# Altium footprint library MiniSquidCtrl.PcbLib: 41 footprints (part 1 of 3)
Each footprint in its own frame and in the unit in brackets; x right, y up, seen from the top. Pads: shape width x height; smd on the part's side, far side on the other; paste and mask are expansions set on the pad; w line width, h text height; cw(c..) or ccw(c..) is an arc to the next point about the centre after c.
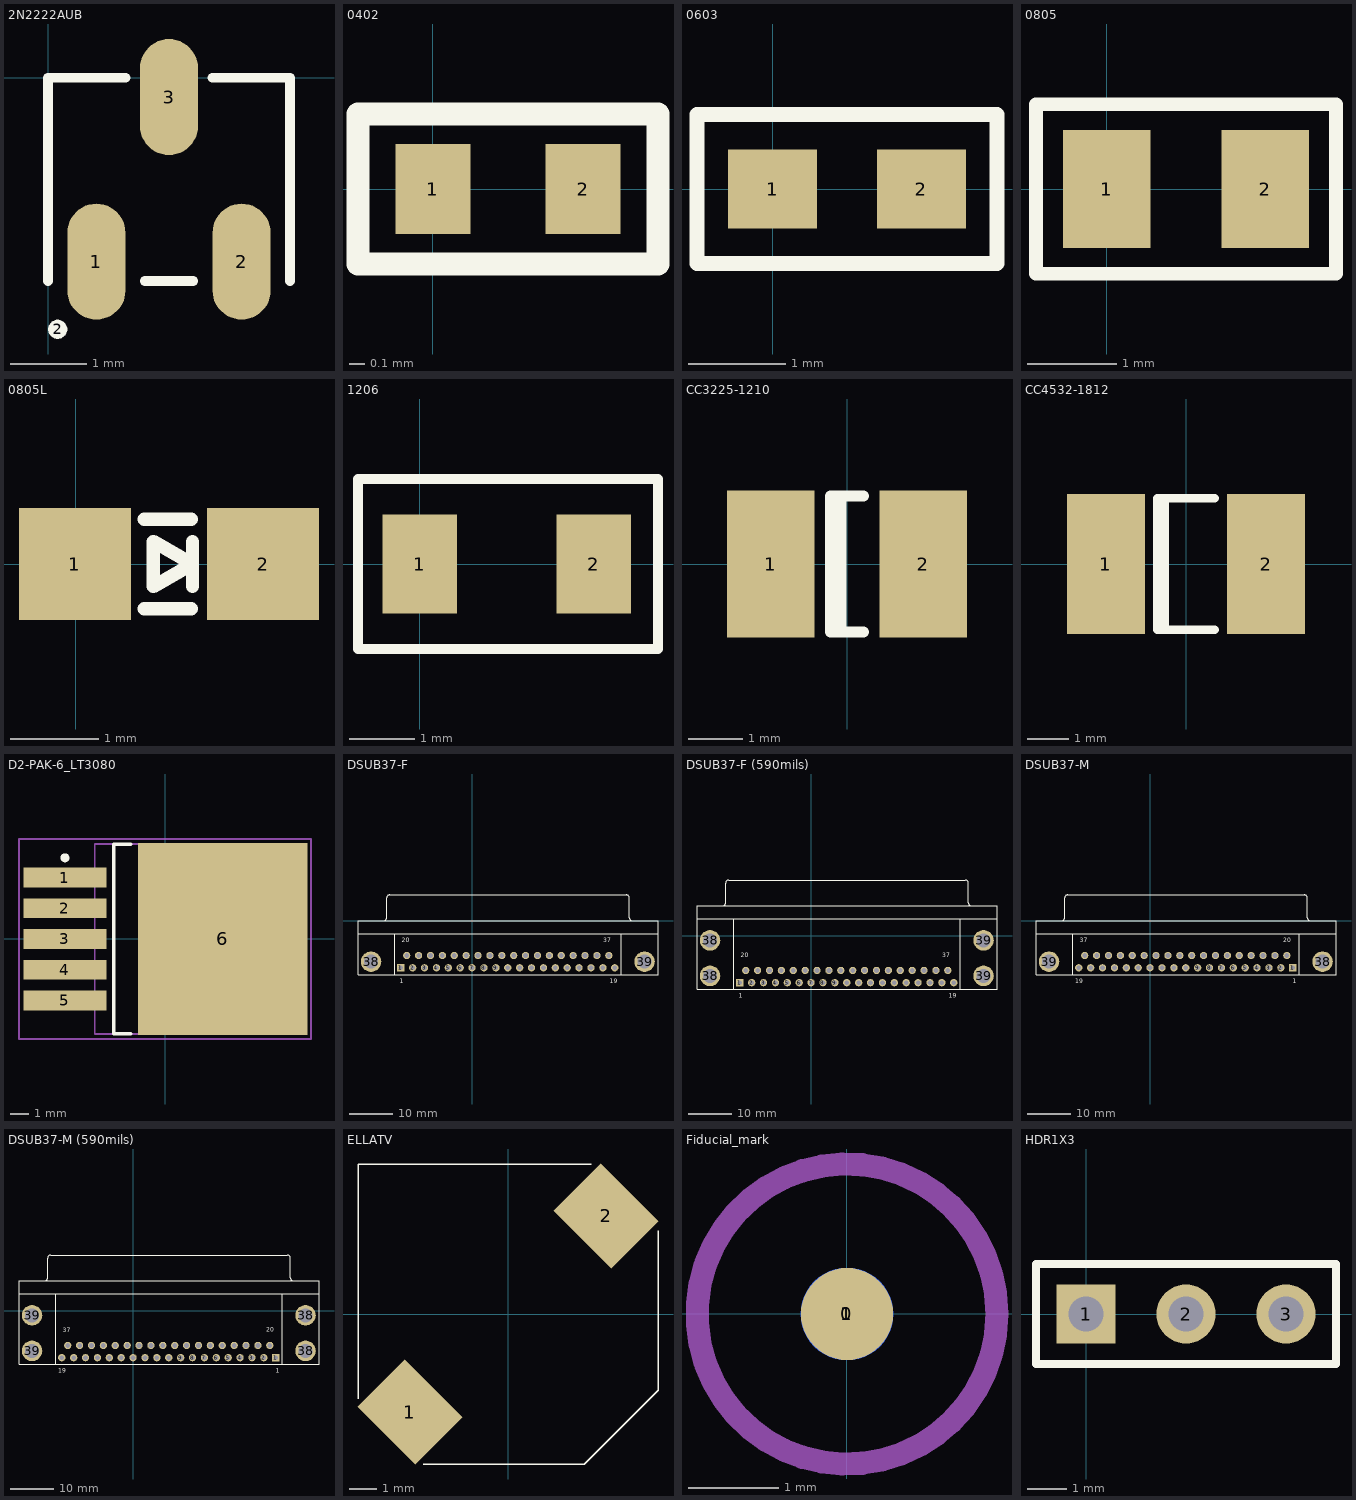
[diagram p0: the footprints below, top view; thin cyan lines are the x and y axes]

## 2N2222AUB [mil] "3 Pin package for 2N2222AUB"
height 54
pads (4):
  oval 30x60 smd paste+0: 1(25,-95)
  round 10 on Top Overlay: 2(5,-130)
  oval 30x60 smd: 2(100,-95) 3(62.5,-10)
Top Overlay:
  lines w5: 0,-105 0,0 40,0 ; 50,-105 75,-105 ; 85,0 125,0 125,-105

## 0402 [mm]
pads (2):
  rect 0.5x0.6 smd: 1(0,0) 2(1,0)
Top Overlay:
  lines w0.152: -0.5,-0.5 1.5,-0.5 1.5,0.5 -0.5,0.5 -0.5,-0.5

## 0603 [mil]
pads (2):
  rect 36x32 smd: 1(0,0) 2(60,0)
Top Overlay:
  lines w6: -30.5,-30 -30.5,30 90.5,30 90.5,-30 -30.5,-30

## 0805 [mil]
pads (2):
  rect 38.5x52 smd: 1(0,0) 2(70,0)
Top Overlay:
  lines w6: -31.25,-37.5 -31.25,37.5 101.25,37.5 101.25,-37.5 -31.25,-37.5

## 0805L [mm]
pads (2):
  rect 1.27x1.27 smd: 1(-0.01,0.005) 2(2.123,0.005)
Top Overlay:
  lines w0.152: 0.777,-0.503 1.311,-0.503 ; 0.777,0.513 1.311,0.513 ; 1.323,-0.249 1.323,0.259 ; 0.879,-0.249 1.323,0.005 0.879,0.259 0.879,-0.249

## 1206 [mil]
pads (2):
  rect 45x60 smd: 1(0,0) 2(105,0)
Top Overlay:
  lines w6: -37.4,-51.18 143.7,-51.18 143.7,51.18 -37.4,51.18 -37.4,-51.18

## CC3225-1210 [mm]
pads (2):
  rect 1.6x2.7 smd: 1(-1.4,0) 2(1.4,0)
Top Overlay:
  lines w0.2: -0.11,-1.25 -0.11,1.25 ; 0.3,-1.25 -0.3,-1.25 -0.3,1.25 0.3,1.25

## CC4532-1812 [mm]
pads (2):
  rect 1.9x3.4 smd: 1(-1.95,0) 2(1.95,0)
Top Overlay:
  lines w0.2: -0.51,-1.6 -0.51,1.6 ; 0.7,-1.6 -0.7,-1.6 -0.7,1.6 0.7,1.6

## D2-PAK-6_LT3080 [mm] "D2-PAK, 6-Pads, Body 9.4x10.5mm (max), IPC Medium Density"
height 4.572
pads (6):
  rect 4.6x1.1 smd: 1(-5.55,3.404) 2(-5.55,1.702) 3(-5.55,0) 4(-5.55,-1.702) 5(-5.55,-3.404)
  rect 9.4x10.672 smd: 6(3.2,0)
Top Overlay:
  circle w0.25: c-5.55,4.504 r0.125
  lines w0.2: -1.9,-5.25 -2.85,-5.25 -2.85,5.25 -1.9,5.25
Mechanical 13:
  lines w0.1: -3.9,-5.275 5.5,-5.275 5.5,5.275 -3.9,5.275 -3.9,-5.275
Mechanical 15:
  lines w0.1: -0.5,0 0.5,0 ; 0,-0.5 0,0.5 ; -8.1,-5.55 8.1,-5.55 8.1,5.55 -8.1,5.55 -8.1,-5.55
3D body: height 4.57, standoff 0.13, extent -3.9,-5.275 5.5,5.275

## DSUB37-F [mm] "DSUB 37Pin Female"
height 12.55
pads (41):
  rect 1.69x1.69 hole 1.09: 1(-16.566,-10.92) 1(-16.566,-10.92)
  round 1.69 hole 1.09: 2(-13.806,-10.92) 3(-11.046,-10.92) 4(-8.286,-10.92) 5(-5.526,-10.92) 6(-2.766,-10.92) 7(-0.006,-10.92) 8(2.754,-10.92) 9(5.514,-10.92) 10(8.274,-10.92) 11(11.034,-10.92) 12(13.794,-10.92) 13(16.554,-10.92) 14(19.314,-10.92) 15(22.074,-10.92) 16(24.834,-10.92) 17(27.594,-10.92) 18(30.354,-10.92) 19(33.114,-10.92) 20(-15.187,-8.08) 20(-15.187,-8.08) 21(-12.427,-8.08) 22(-9.667,-8.08) 23(-6.907,-8.08) 24(-4.147,-8.08) 25(-1.387,-8.08) 26(1.373,-8.08) 27(4.133,-8.08) 28(6.893,-8.08) 29(9.653,-8.08) 30(12.413,-8.08) 31(15.173,-8.08) 32(17.933,-8.08) 33(20.693,-8.08) 34(23.453,-8.08) 35(26.213,-8.08) 36(28.973,-8.08) 37(31.733,-8.08)
  round 4.76 hole 3.26: 38(-23.476,-9.5) 39(40.024,-9.5)
Top Overlay:
  lines w0.2: -26.496,-3 -17.946,-3 ; -20.541,0.005 ccw(c-20.541,0.7) -19.846,0.7 -19.846,5.3 ; -19.841,5.305 cw(c-19.146,5.305) -19.146,6 35.802,6 cw(c35.802,5.305) 36.497,5.305 ; -17.946,-12.5 -17.946,-3 ; 34.602,-3 34.602,-12.5 ; 36.502,5.3 36.502,0.7 ccw(c37.197,0.7) 37.197,0.005 ; 43.152,-3 -17.946,-3 ; 34.602,-12.5 43.152,-12.5 43.152,0 -26.496,0 -26.496,-12.5 34.602,-12.5
  text "1" at -16.816,-14.475 h1.02
  text "19" at 31.989,-14.475 h1.02
  text "20" at -16.31,-4.975 h1.02
  text "37" at 30.484,-4.975 h1.02

## DSUB37-F (590mils) [mm] "DSUB 37Pin Female - 590mils from board edge to first pin"
height 12.55
pads (41):
  rect 1.69x1.69 hole 1.09: 1(-16.566,-10.92)
  round 1.69 hole 1.09: 2(-13.806,-10.92) 3(-11.046,-10.92) 4(-8.286,-10.92) 5(-5.526,-10.92) 6(-2.766,-10.92) 7(-0.006,-10.92) 8(2.754,-10.92) 9(5.514,-10.92) 10(8.274,-10.92) 11(11.034,-10.92) 12(13.794,-10.92) 13(16.554,-10.92) 14(19.314,-10.92) 15(22.074,-10.92) 16(24.834,-10.92) 17(27.594,-10.92) 18(30.354,-10.92) 19(33.114,-10.92) 20(-15.187,-8.08) 21(-12.427,-8.08) 22(-9.667,-8.08) 23(-6.907,-8.08) 24(-4.147,-8.08) 25(-1.387,-8.08) 26(1.373,-8.08) 27(4.133,-8.08) 28(6.893,-8.08) 29(9.653,-8.08) 30(12.413,-8.08) 31(15.173,-8.08) 32(17.933,-8.08) 33(20.693,-8.08) 34(23.453,-8.08) 35(26.213,-8.08) 36(28.973,-8.08) 37(31.733,-8.08)
  round 4.76 hole 3.26: 38(-23.476,-1.095) 38(-23.476,-9.348) 39(40.024,-1.095) 39(40.024,-9.348)
Top Overlay:
  lines w0.2: -26.496,3.909 -17.946,3.909 43.152,3.909 ; -20.541,6.914 ccw(c-20.541,7.609) -19.846,7.609 -19.846,12.209 ; -19.841,12.214 cw(c-19.146,12.214) -19.146,12.909 35.802,12.909 cw(c35.802,12.214) 36.497,12.214 ; -17.946,-12.5 -17.946,3.9 ; 34.602,3.9 34.602,-12.5 ; 36.502,12.209 36.502,7.609 ccw(c37.197,7.609) 37.197,6.914 ; 34.602,-12.5 43.152,-12.5 43.152,6.909 -26.496,6.909 -26.496,-12.5 34.602,-12.5
  text "1" at -16.816,-14.475 h1.02
  text "19" at 31.989,-14.475 h1.02
  text "20" at -16.31,-4.975 h1.02
  text "37" at 30.484,-4.975 h1.02

## DSUB37-M [mm] "DSUB 37Pin Male"
height 12.55
pads (41):
  rect 1.69x1.69 hole 1.09: 1(33.112,-10.92) 1(33.112,-10.92)
  round 1.69 hole 1.09: 2(30.352,-10.92) 3(27.592,-10.92) 4(24.832,-10.92) 5(22.072,-10.92) 6(19.312,-10.92) 7(16.552,-10.92) 8(13.792,-10.92) 9(11.032,-10.92) 10(8.272,-10.92) 11(5.512,-10.92) 12(2.752,-10.92) 13(-0.008,-10.92) 14(-2.768,-10.92) 15(-5.528,-10.92) 16(-8.288,-10.92) 17(-11.048,-10.92) 18(-13.808,-10.92) 19(-16.568,-10.92) 20(31.733,-8.08) 20(31.733,-8.08) 21(28.973,-8.08) 22(26.213,-8.08) 23(23.453,-8.08) 24(20.693,-8.08) 25(17.933,-8.08) 26(15.173,-8.08) 27(12.413,-8.08) 28(9.653,-8.08) 29(6.893,-8.08) 30(4.133,-8.08) 31(1.373,-8.08) 32(-1.387,-8.08) 33(-4.147,-8.08) 34(-6.907,-8.08) 35(-9.667,-8.08) 36(-12.427,-8.08) 37(-15.187,-8.08)
  round 4.76 hole 3.26: 38(40.024,-9.5) 39(-23.476,-9.5)
Top Overlay:
  lines w0.2: -26.496,-3 -17.946,-3 ; -20.541,0.005 ccw(c-20.541,0.7) -19.846,0.7 -19.846,5.3 ; -19.841,5.305 cw(c-19.146,5.305) -19.146,6 35.802,6 cw(c35.802,5.305) 36.497,5.305 ; -17.946,-12.5 -17.946,-3 ; 34.602,-3 34.602,-12.5 ; 36.502,5.3 36.502,0.7 ccw(c37.197,0.7) 37.197,0.005 ; 43.152,-3 -17.946,-3 ; 34.602,-12.5 -26.496,-12.5 -26.496,0 43.152,0 43.152,-12.5 34.602,-12.5
  text "37" at -16.31,-4.975 h1.02
  text "1" at 33.132,-14.475 h1.02
  text "19" at -17.399,-14.478 h1.02
  text "20" at 30.861,-4.953 h1.02

## DSUB37-M (590mils) [mm] "DSUB 37Pin Male - 590mils from board edge to first pin"
height 12.55
pads (41):
  rect 1.69x1.69 hole 1.09: 1(33.112,-10.92)
  round 1.69 hole 1.09: 2(30.352,-10.92) 3(27.592,-10.92) 4(24.832,-10.92) 5(22.072,-10.92) 6(19.312,-10.92) 7(16.552,-10.92) 8(13.792,-10.92) 9(11.032,-10.92) 10(8.272,-10.92) 11(5.512,-10.92) 12(2.752,-10.92) 13(-0.008,-10.92) 14(-2.768,-10.92) 15(-5.528,-10.92) 16(-8.288,-10.92) 17(-11.048,-10.92) 18(-13.808,-10.92) 19(-16.568,-10.92) 20(31.733,-8.08) 21(28.973,-8.08) 22(26.213,-8.08) 23(23.453,-8.08) 24(20.693,-8.08) 25(17.933,-8.08) 26(15.173,-8.08) 27(12.413,-8.08) 28(9.653,-8.08) 29(6.893,-8.08) 30(4.133,-8.08) 31(1.373,-8.08) 32(-1.387,-8.08) 33(-4.147,-8.08) 34(-6.907,-8.08) 35(-9.667,-8.08) 36(-12.427,-8.08) 37(-15.187,-8.08)
  round 4.76 hole 3.26: 38(40.024,-9.348) 38(40.024,-1.095) 39(-23.476,-9.348) 39(-23.476,-1.095)
Top Overlay:
  lines w0.2: -26.496,3.909 -17.946,3.909 ; -20.541,6.914 ccw(c-20.541,7.609) -19.846,7.609 -19.846,12.209 ; -19.841,12.214 cw(c-19.146,12.214) -19.146,12.909 35.802,12.909 cw(c35.802,12.214) 36.497,12.214 ; -17.946,-12.5 -17.946,3.909 ; 34.602,3.909 34.602,-12.5 ; 36.502,12.209 36.502,7.609 ccw(c37.197,7.609) 37.197,6.914 ; 43.152,3.909 -17.946,3.909 ; 43.152,6.9 43.152,-12.5 34.602,-12.5 ; 43.152,6.909 -26.496,6.909 -26.496,-12.5 34.602,-12.5
  text "37" at -16.31,-4.975 h1.02
  text "1" at 33.132,-14.475 h1.02
  text "19" at -17.399,-14.478 h1.02
  text "20" at 30.861,-4.953 h1.02

## ELLATV [mm] "Inductor"
height 4.2
pads (2):
  rect 2.45x3 smd rot 45: 1(-3.6,-3.6) 2(3.6,3.6)
Top Overlay:
  lines w0.051: -5.5,-3.1 -5.5,5.5 3.05,5.5 ; -3.1,-5.5 2.8,-5.5 5.5,-2.8 5.5,3.05

## Fiducial_mark [mil]
pads (2):
  round 40 smd mask+20: 0(0,0)
  round 40 smd far side mask+20: 1(0,0)
Mechanical 2:
  circle w10: c0,0 r65

## HDR1X3 [mm]
pads (3):
  rect 1.5x1.5 hole 0.889: 1(0,0)
  round 1.5 hole 0.889: 2(2.54,0) 3(5.08,0)
Top Overlay:
  lines w0.2: -1.27,-1.27 -1.27,1.27 6.35,1.27 6.35,-1.27 -1.27,-1.27